# Altium footprint library Relay.PcbLib: 1 footprints
Each footprint in its own frame and in the unit in brackets; x right, y up, seen from the top. Pads: shape width x height; smd on the part's side, far side on the other; paste and mask are expansions set on the pad; w line width, h text height; cw(c..) or ccw(c..) is an arc to the next point about the centre after c.
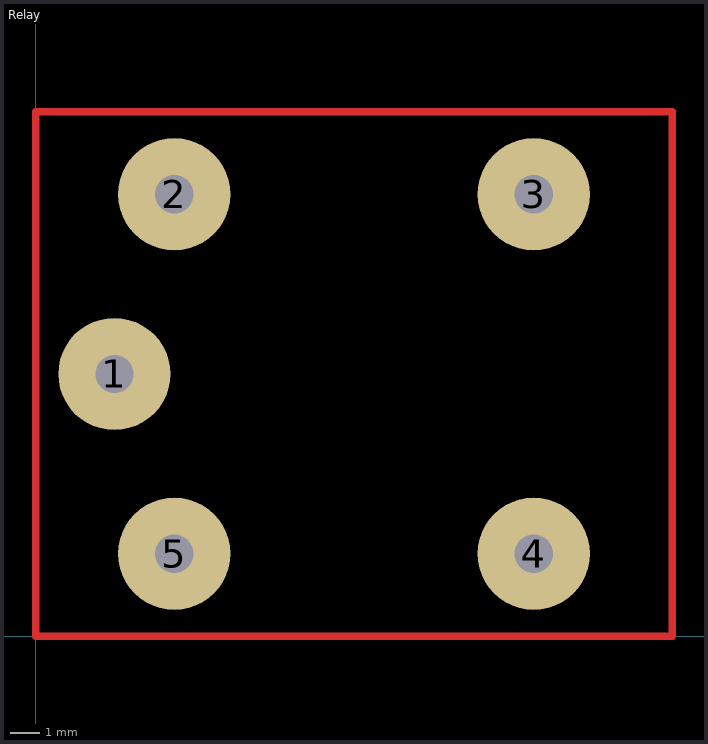
[diagram p0: the footprint, top view; thin cyan lines are the x and y axes]

## Relay [mil]
pads (5):
  round 150 hole 51.18: 1(105,350) 2(185,590) 3(665,590) 4(665,110) 5(185,110)
Top Layer:
  lines w10: 0,0 850,0 850,700 0,700 0,0